# EAGLE library part 653115131822 (library WR-WTB)
WR-WTB 1.25 mm SMT Male Vertical Shrouded Header Material Properties Insulator Material PA9T Insulator Flammability Rating UL94 V-0 Insulator Color Ivory Color Ivory Contact Material Copper Alloy Contact Plating Tin Contact Type Stamped Certification UL Approval E323964 General Information Operating Temperature -40 °C up to +85 °C IR 1 Working Voltage 125 V (AC) Withstanding Voltage 250 V (AC) Contact Resistance 20 mΩ RISO 100 MΩ Pitch 1.25 mm Gender Male Type Horizontal Packaging Properties Packaging Tape and Reel Details see: www.we-online.com/en/components/products/WTB_1_25_SMT_MALE_HORIZONTAL_SHROUDED_HEADER_6531XX131822 Updated by Ella 2025-03-06 2025 (C) Würth Elektronik
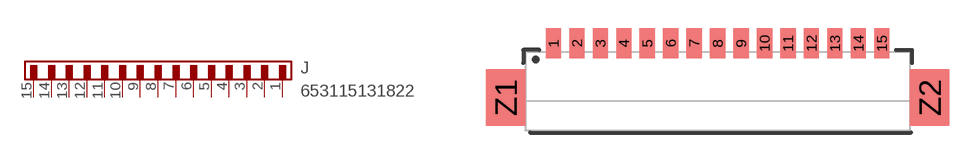
[diagram p2: symbol with the pads of 653115131822; footprint 653115131822]

Designator prefix J

## 653115131822 (CONTACT-RESISTANCE: 20mOhm; DATASHEET: https://www.we-online.com/redexpert/spec/653115131822?ae; GENDER: Male; IR: 1A; L: 23.5mm; MOUNT: SMT; PACKAGING: Tape and Reel; PART-NUMBER: 653115131822; PCB-CABLE-PANEL: PCB; PINS: 15; PITCH: 1.25mm; TYPE: Horizontal; VALUE: 653115131822; WORKING-VOLTAGE: 125V(AC))  [653115131822]
1  1  pas
2  2  pas
3  3  pas
4  4  pas
5  5  pas
6  6  pas
7  7  pas
8  8  pas
9  9  pas
10  10  pas
11  11  pas
12  12  pas
13  13  pas
14  14  pas
15  15  pas

## Footprint 653115131822 (pad centres in mm)
WR-WTB 1.25 mm SMT Male Horizontal Shrouded Header,15 Pins
smd 0.81 x 1.6: 1 -8.75,2.56; 2 -7.5,2.56; 3 -6.25,2.56; 4 -5,2.56; 5 -3.75,2.56; 6 -2.5,2.56; 7 -1.25,2.56; 8 0,2.56; 9 1.25,2.56; 10 2.5,2.56; 11 3.75,2.56; 12 5,2.56; 13 6.25,2.56; 14 7.5,2.56; 15 8.75,2.56
smd 2.1 x 3: Z1 -11.3,-0.34; Z2 11.3,-0.34